# EAGLE library part A3979LP-T (library stepper_drivers_etc)
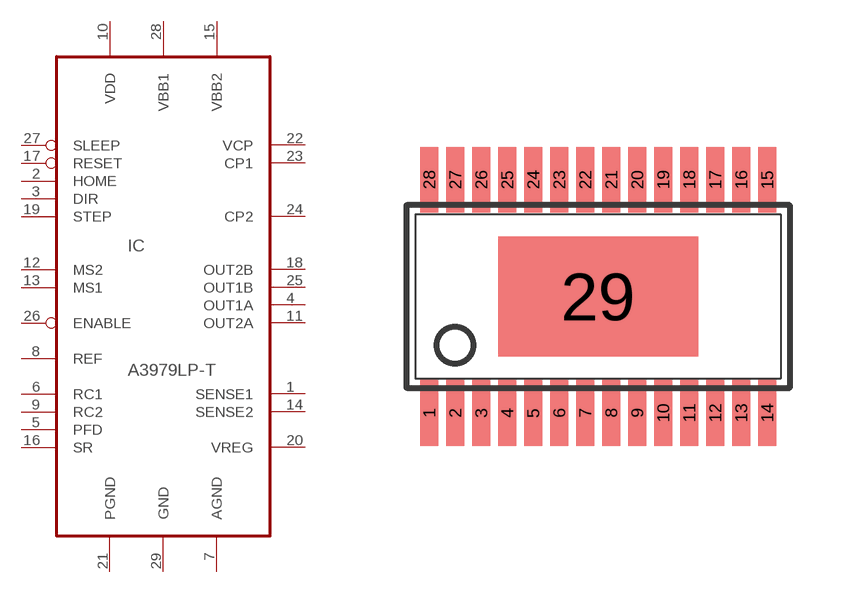
[diagram p12: symbol with the pads of TSSOP28-LP; footprint TSSOP28-LP]

Designator prefix IC

## A3979LP-T  [TSSOP28-LP]
1  SENSE1
2  HOME  in
3  DIR  in
4  OUT1A  out
5  PFD
6  RC1
7  AGND  pwr
8  REF  in
9  RC2
10  VDD  pwr
11  OUT2A  out
12  MS2  in
13  MS1  in
14  SENSE2
15  VBB2  pwr
16  SR
17  RESET  in
18  OUT2B  out
19  STEP  in
20  VREG
21  PGND  pwr
22  VCP
23  CP1
24  CP2
25  OUT1B  out
26  ENABLE  in
27  SLEEP  in
28  VBB1  pwr
29  GND  pwr

## Footprint TSSOP28-LP (pad centres in mm)
Thin Shrink Small Outline Plastic 28 MAX3223-MAX3243.pdf
smd 0.45 x 1.65: 1 -4.225,-2.918; 2 -3.575,-2.918; 3 -2.925,-2.918; 4 -2.275,-2.918; 5 -1.625,-2.918; 6 -0.975,-2.918; 7 -0.325,-2.918; 8 0.325,-2.918; 9 0.975,-2.918; 10 1.625,-2.918; 11 2.275,-2.918; 12 2.925,-2.918; 13 3.575,-2.918; 14 4.225,-2.918; 15 4.225,2.918; 16 3.575,2.918; 17 2.925,2.918; 18 2.275,2.918; 19 1.625,2.918; 20 0.975,2.918; 21 0.325,2.918; 22 -0.325,2.918; 23 -0.975,2.918; 24 -1.625,2.918; 25 -2.275,2.918; 26 -2.925,2.918; 27 -3.575,2.918; 28 -4.225,2.918
smd 5 x 3: 29 0,0